# Altium footprint library molex_connectors.PcbLib: 22 footprints (part 2 of 2)
Each footprint in its own frame and in the unit in brackets; x right, y up, seen from the top. Pads: shape width x height; smd on the part's side, far side on the other; paste and mask are expansions set on the pad; w line width, h text height; cw(c..) or ccw(c..) is an arc to the next point about the centre after c.
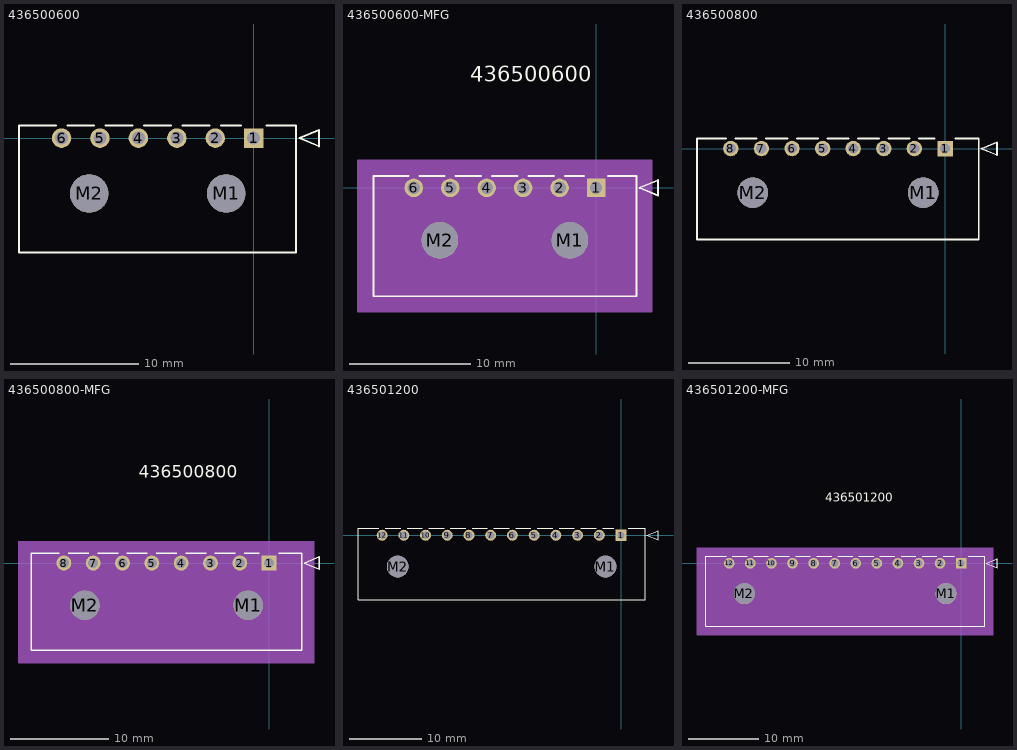
[diagram p1: the footprints below, top view; thin cyan lines are the x and y axes]

## 436500600 [mm]
pads (8):
  rect 1.52x1.52 / inner round 1.524 / far side rect 1.52x1.52 hole 1.02: 1(0,0)
  round 1.52 / inner round 1.524 / far side round 1.52 hole 1.02: 2(-3,0) 3(-6,0) 4(-9,0) 5(-12,0) 6(-15,0)
  round 3 / inner round 1.524 / far side round 3 hole 3 unplated: M1(-2.15,-4.32) M2(-12.85,-4.32)
Top Overlay:
  lines w0.152: -15.448,0.98 -18.32,0.98 -18.32,-8.92 3.32,-8.92 3.32,0.98 0.989,0.98 ; -14.552,0.98 -12.448,0.98 ; -11.552,0.98 -9.448,0.98 ; -8.552,0.98 -6.448,0.98 ; -5.552,0.98 -3.448,0.98 ; -2.552,0.98 -0.989,0.98 ; 3.574,0 5.098,0.635 5.098,-0.635 3.574,0
3D body "436500600 v2.step": height 5.61, standoff -3.26, extent -18.32,-8.85 3.32,1.05

## 436500600-MFG [mm]
pads (8):
  rect 1.52x1.52 / inner round 1.524 / far side rect 1.52x1.52 hole 1.02 paste-0.76 mask+0.076: 1(0,0)
  round 1.52 / inner round 1.524 / far side round 1.52 hole 1.02 paste-0.76 mask+0.076: 2(-3,0) 3(-6,0) 4(-9,0) 5(-12,0) 6(-15,0)
  round 3 / inner round 1.524 / far side round 3 hole 3 unplated paste-1.5 mask+0.076: M1(-2.15,-4.32) M2(-12.85,-4.32)
Top Overlay:
  lines w0.152: -15.448,0.98 -18.32,0.98 -18.32,-8.92 3.32,-8.92 3.32,0.98 0.989,0.98 ; -14.552,0.98 -12.448,0.98 ; -11.552,0.98 -9.448,0.98 ; -8.552,0.98 -6.448,0.98 ; -5.552,0.98 -3.448,0.98 ; -2.552,0.98 -0.989,0.98 ; 3.574,0 5.098,-0.635 5.098,0.635 3.574,0
  text "436500600" at -10.357,8.73 h1.27
Mechanical 3:
  text "NPTH_DRILL_SIZE:_3.0_MM,_TOL:_+0.05/-0.05" at -20.517,-16.67 h1.27
  text "PTH_DRILL_SIZE:_1.02_MM,_TOL:_+0.05/-0.05" at -20.517,-14.13 h1.27
Mechanical 10:
  text "NPTH_DRILL_SIZE:_3.0_MM,_TOL:_+0.05/-0.05" at -20.517,-16.67 h1.27
  text "PTH_DRILL_SIZE:_1.02_MM,_TOL:_+0.05/-0.05" at -20.517,-14.13 h1.27
Mechanical 13:
  lines w0.127: -18.32,-8.92 -18.32,0.98 3.32,0.98 3.32,-8.92 -18.32,-8.92 ; 3.574,0 5.098,-0.635 5.098,0.635 3.574,0
  text "436500600" at -10.357,8.73 h1.27
Mechanical 15:
  region: 4.59,2.25 -19.59,2.25 -19.59,-10.19 4.59,-10.19
  lines w0.127: -19.59,-10.19 4.59,-10.19 4.59,2.25 -19.59,2.25 -19.59,-10.19

## 436500800 [mm]
pads (10):
  rect 1.52x1.52 / inner round 1.524 / far side rect 1.52x1.52 hole 1.02: 1(0,0)
  round 1.52 / inner round 1.524 / far side round 1.52 hole 1.02: 2(-3,0) 3(-6,0) 4(-9,0) 5(-12,0) 6(-15,0) 7(-18,0) 8(-21,0)
  round 3 / inner round 1.524 / far side round 3 hole 3 unplated: M1(-2.15,-4.32) M2(-18.85,-4.32)
Top Overlay:
  lines w0.152: -21.448,0.98 -24.32,0.98 -24.32,-8.92 3.32,-8.92 3.32,0.98 0.989,0.98 ; -20.552,0.98 -18.448,0.98 ; -17.552,0.98 -15.448,0.98 ; -14.552,0.98 -12.448,0.98 ; -11.552,0.98 -9.448,0.98 ; -8.552,0.98 -6.448,0.98 ; -5.552,0.98 -3.448,0.98 ; -2.552,0.98 -0.989,0.98 ; 3.574,0 5.098,0.635 5.098,-0.635 3.574,0
3D body "436500800 v2.step": height 5.61, standoff -3.26, extent -24.345,-8.875 3.295,1.025

## 436500800-MFG [mm]
pads (10):
  rect 1.52x1.52 / inner round 1.524 / far side rect 1.52x1.52 hole 1.02 paste-0.76 mask+0.076: 1(0,0)
  round 1.52 / inner round 1.524 / far side round 1.52 hole 1.02 paste-0.76 mask+0.076: 2(-3,0) 3(-6,0) 4(-9,0) 5(-12,0) 6(-15,0) 7(-18,0) 8(-21,0)
  round 3 / inner round 1.524 / far side round 3 hole 3 unplated paste-1.5 mask+0.076: M1(-2.15,-4.32) M2(-18.85,-4.32)
Top Overlay:
  lines w0.152: -21.448,0.98 -24.32,0.98 -24.32,-8.92 3.32,-8.92 3.32,0.98 0.989,0.98 ; -20.552,0.98 -18.448,0.98 ; -17.552,0.98 -15.448,0.98 ; -14.552,0.98 -12.448,0.98 ; -11.552,0.98 -9.448,0.98 ; -8.552,0.98 -6.448,0.98 ; -5.552,0.98 -3.448,0.98 ; -2.552,0.98 -0.989,0.98 ; 3.574,0 5.098,-0.635 5.098,0.635 3.574,0
  text "436500800" at -13.357,8.73 h1.27
Mechanical 3:
  text "NPTH_DRILL_SIZE:_3.0_MM,_TOL:_+0.05/-0.05" at -23.517,-16.67 h1.27
  text "PTH_DRILL_SIZE:_1.02_MM,_TOL:_+0.05/-0.05" at -23.517,-14.13 h1.27
Mechanical 10:
  text "NPTH_DRILL_SIZE:_3.0_MM,_TOL:_+0.05/-0.05" at -23.517,-16.67 h1.27
  text "PTH_DRILL_SIZE:_1.02_MM,_TOL:_+0.05/-0.05" at -23.517,-14.13 h1.27
Mechanical 13:
  lines w0.127: -24.32,-8.92 -24.32,0.98 3.32,0.98 3.32,-8.92 -24.32,-8.92 ; 3.574,0 5.098,-0.635 5.098,0.635 3.574,0
  text "436500800" at -13.357,8.73 h1.27
Mechanical 15:
  region: 4.59,2.25 -25.59,2.25 -25.59,-10.19 4.59,-10.19
  lines w0.127: -25.59,-10.19 4.59,-10.19 4.59,2.25 -25.59,2.25 -25.59,-10.19

## 436501200 [mm]
pads (14):
  rect 1.52x1.52 / inner round 1.524 / far side rect 1.52x1.52 hole 1.02: 1(0,0)
  round 1.52 / inner round 1.524 / far side round 1.52 hole 1.02: 2(-3,0) 3(-6,0) 4(-9,0) 5(-12,0) 6(-15,0) 7(-18,0) 8(-21,0) 9(-24,0) 10(-27,0) 11(-30,0) 12(-33,0)
  round 3 / inner round 1.524 / far side round 3 hole 3 unplated: M1(-2.15,-4.32) M2(-30.85,-4.32)
Top Overlay:
  lines w0.152: -33.448,0.98 -36.325,0.98 -36.325,-8.92 3.325,-8.92 3.325,0.98 0.989,0.98 ; -32.552,0.98 -30.448,0.98 ; -29.552,0.98 -27.448,0.98 ; -26.552,0.98 -24.448,0.98 ; -23.552,0.98 -21.448,0.98 ; -20.552,0.98 -18.448,0.98 ; -17.552,0.98 -15.448,0.98 ; -14.552,0.98 -12.448,0.98 ; -11.552,0.98 -9.448,0.98 ; -8.552,0.98 -6.448,0.98 ; -5.552,0.98 -3.448,0.98 ; -2.552,0.98 -0.989,0.98 ; 3.579,0 5.103,0.635 5.103,-0.635 3.579,0
3D body "436501200 v5.step": height 5.61, standoff -3.26, extent -36.325,-8.9 3.325,1

## 436501200-MFG [mm]
pads (14):
  rect 1.52x1.52 / inner round 1.524 / far side rect 1.52x1.52 hole 1.02 paste-0.76 mask+0.076: 1(0,0)
  round 1.52 / inner round 1.524 / far side round 1.52 hole 1.02 paste-0.76 mask+0.076: 2(-3,0) 3(-6,0) 4(-9,0) 5(-12,0) 6(-15,0) 7(-18,0) 8(-21,0) 9(-24,0) 10(-27,0) 11(-30,0) 12(-33,0)
  round 3 / inner round 1.524 / far side round 3 hole 3 unplated paste-1.5 mask+0.076: M1(-2.15,-4.32) M2(-30.85,-4.32)
Top Overlay:
  lines w0.152: -33.448,0.98 -36.325,0.98 -36.325,-8.92 3.325,-8.92 3.325,0.98 0.989,0.98 ; -32.552,0.98 -30.448,0.98 ; -29.552,0.98 -27.448,0.98 ; -26.552,0.98 -24.448,0.98 ; -23.552,0.98 -21.448,0.98 ; -20.552,0.98 -18.448,0.98 ; -17.552,0.98 -15.448,0.98 ; -14.552,0.98 -12.448,0.98 ; -11.552,0.98 -9.448,0.98 ; -8.552,0.98 -6.448,0.98 ; -5.552,0.98 -3.448,0.98 ; -2.552,0.98 -0.989,0.98 ; 3.579,0 5.103,0.635 5.103,-0.635 3.579,0
  text "436501200" at -19.357,8.73 h1.27
Mechanical 3:
  text "PTH_DRILL_SIZE:_1.02_MM,_TOL:_+0.05/-0.05" at -29.517,-14.13 h1.27
  text "NPTH_DRILL_SIZE:_3.0_MM,_TOL:_+0.05/-0.05" at -29.517,-16.67 h1.27
Mechanical 10:
  text "PTH_DRILL_SIZE:_1.02_MM,_TOL:_+0.05/-0.05" at -29.517,-14.13 h1.27
  text "NPTH_DRILL_SIZE:_3.0_MM,_TOL:_+0.05/-0.05" at -29.517,-16.67 h1.27
Mechanical 13:
  lines w0.127: -36.325,-8.92 3.325,-8.92 3.325,0.98 -36.325,0.98 -36.325,-8.92 ; 3.579,0 5.103,0.635 5.103,-0.635 3.579,0
  text "436501200" at -19.357,8.73 h1.27
Mechanical 15:
  region: 4.595,2.25 -37.595,2.25 -37.595,-10.19 4.595,-10.19
  lines w0.127: -37.595,-10.19 -37.595,2.25 4.595,2.25 4.595,-10.19 -37.595,-10.19